# EAGLE library part CC2590 (library X893)
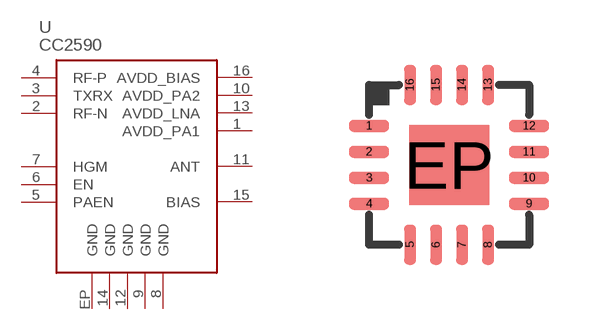
[diagram p60: symbol with the pads of QFN16-4X4; footprint QFN16-4X4]

Designator prefix U

## CC2590  [QFN16-4X4]
1  AVDD_PA1  pas
2  RF-N  pas
3  TXRX
4  RF-P  pas
5  PAEN  in
6  EN  in
7  HGM  in
8  GND  pwr
9  GND  pwr
10  AVDD_PA2  pas
11  ANT  pas
12  GND  pwr
13  AVDD_LNA  pas
14  GND  pwr
15  BIAS  pas
16  AVDD_BIAS  pas
EP  GND  pwr

## Footprint QFN16-4X4 (pad centres in mm)
QFN-16 4x4 mm package
smd 1 x 0.3: 1 -2,0.975; 2 -2,0.325; 3 -2,-0.325; 4 -2,-0.975; 9 2,-0.975; 10 2,-0.325; 11 2,0.325; 12 2,0.975
smd 0.3 x 1: 5 -0.975,-2; 6 -0.325,-2; 7 0.325,-2; 8 0.975,-2; 13 0.975,2; 14 0.325,2; 15 -0.325,2; 16 -0.975,2
smd 2 x 2: EP 0,0